# Altium schematic symbol library Ni-strap-4.Schlib: 1 symbol
Pins are listed as number, name and electrical type; pins without a type are passive.

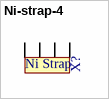
[diagram p0: symbol Ni-strap-4]

## Ni-strap-4
designator X?, comment Ni Strap  (value not drawn)
pins: 1, 2, 3, 4